# EAGLE library part CONN_MOLEX_052207-2233 (library WCSMain)
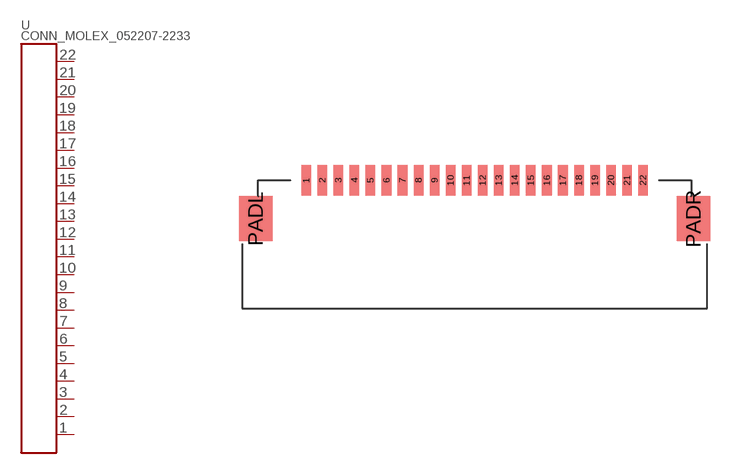
[diagram p9: symbol with the pads of CONN_1MM_22POS_FPC; footprint CONN_1MM_22POS_FPC]

Designator prefix -

## CONN_MOLEX_052207-2233  [CONN_1MM_22POS_FPC]
1  PIN_1  pas
2  PIN_2  pas
3  PIN_3  pas
4  PIN_4  pas
5  PIN_5  pas
6  PIN_6  pas
7  PIN_7  pas
8  PIN_8  pas
9  PIN_9  pas
10  PIN_10  pas
11  PIN_11  pas
12  PIN_12  pas
13  PIN_13  pas
14  PIN_14  pas
15  PIN_15  pas
16  PIN_16  pas
17  PIN_17  pas
18  PIN_18  pas
19  PIN_19  pas
20  PIN_20  pas
21  PIN_21  pas
22  PIN_22  pas

## Footprint CONN_1MM_22POS_FPC (pad centres in mm)
smd 0.6 x 1.9: 1 -10,0; 2 -9,0; 3 -8,0; 4 -7,0; 5 -6,0; 6 -5,0; 7 -4,0; 8 -3,0; 9 -2,0; 10 -1,0; 11 0,0; 12 1,0; 13 2,0; 14 3,0; 15 4,0; 16 5,0; 17 6,0; 18 7,0; 19 8,0; 20 9,0; 21 10,0; 22 11,0
smd 2.1 x 2.8: PADL -13.15,-2.4; PADR 14.15,-2.4